# EAGLE library part 24V_POWER_3PH (library CASARIAE)
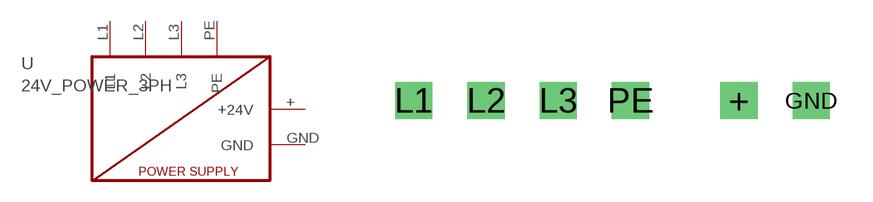
[diagram p2: symbol with the pads of L1L2L3PE24GND; footprint L1L2L3PE24GND]

Designator prefix -

## 24V_POWER_3PH  [L1L2L3PE24GND]
+  +24V  pas
GND  GND  pas
L1  L1  pas
L2  L2  pas
L3  L3
PE  PE

## Footprint L1L2L3PE24GND (pad centres in mm)
drill 0.8 square: + -1.27,0; GND 1.27,0; L1 -12.7,0; L2 -10.16,0; L3 -7.62,0; PE -5.08,0